# EAGLE library part SCREWTERM-6 (library 1dah)
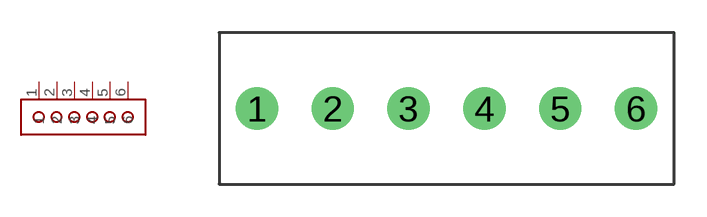
[diagram p30: symbol with the pads of MA212-6; footprint MA212-6]

Designator prefix -

## SCREWTERM-6-MA212-6  [MA212-6]
1  1
2  2
3  3
4  4
5  5
6  6

## Footprint MA212-6 (pad centres in mm)
drill 1.3: 1 -8.75,-0.01; 2 -5.25,-0.01; 3 -1.75,-0.01; 4 1.75,-0.01; 5 5.25,-0.01; 6 8.75,-0.01